# EAGLE library part STEPPER-MOTOR-EASY-DRIVER (library diy-modules_modificada)
Stepper Motor Easy Driver Project page: http://www.schmalzhaus.com/EasyDriver/ Click here to find device on ebay.com <http://www.ebay.com/sch/easydriver+stepper+motor+driver>
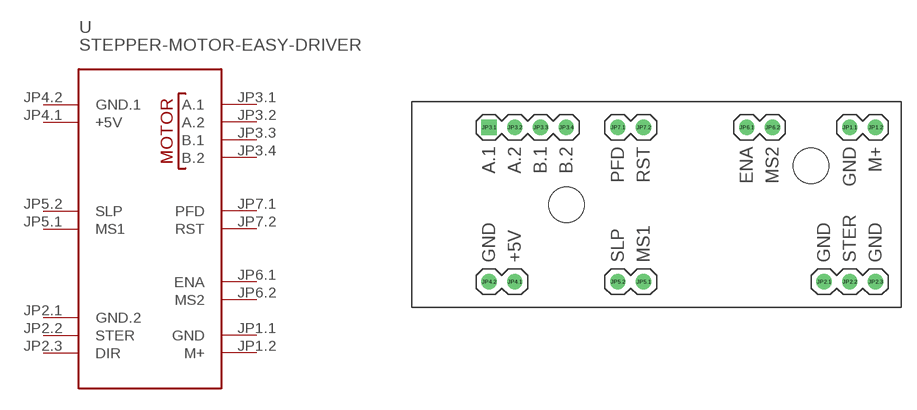
[diagram p25: symbol with the pads of STEPPER-MOTOR-EASY-DRIVER; footprint STEPPER-MOTOR-EASY-DRIVER]

Designator prefix -

## STEPPER-MOTOR-EASY-DRIVER  [STEPPER-MOTOR-EASY-DRIVER]
JP1.1  GND
JP1.2  M+
JP2.1  GND.2
JP2.2  STER
JP2.3  DIR
JP3.1  A.1
JP3.2  A.2
JP3.3  B.1
JP3.4  B.2
JP4.1  +5V
JP4.2  GND.1
JP5.1  MS1
JP5.2  SLP
JP6.1  ENA
JP6.2  MS2
JP7.1  PFD
JP7.2  RST

## Footprint STEPPER-MOTOR-EASY-DRIVER (pad centres in mm)
Stepper Motor Easy Driver
drill 1: JP1.1 19.05,7.62; JP1.2 21.59,7.62; JP2.1 16.51,-7.62; JP2.2 19.05,-7.62; JP2.3 21.59,-7.62; JP3.2 -13.97,7.62; JP3.3 -11.43,7.62; JP3.4 -8.89,7.62; JP4.1 -13.97,-7.62; JP4.2 -16.51,-7.62; JP5.1 -1.27,-7.62; JP5.2 -3.81,-7.62; JP6.1 8.89,7.62; JP6.2 11.43,7.62; JP7.1 -3.81,7.62; JP7.2 -1.27,7.62
drill 1 square: JP3.1 -16.51,7.62
hole 3.5 at -8.89,0
hole 3.5 at 15.24,3.81